# Altium footprint library AMR_Ref.PcbLib: 26 footprints (part 2 of 2)
Each footprint in its own frame and in the unit in brackets; x right, y up, seen from the top. Pads: shape width x height; smd on the part's side, far side on the other; paste and mask are expansions set on the pad; w line width, h text height; cw(c..) or ccw(c..) is an arc to the next point about the centre after c.
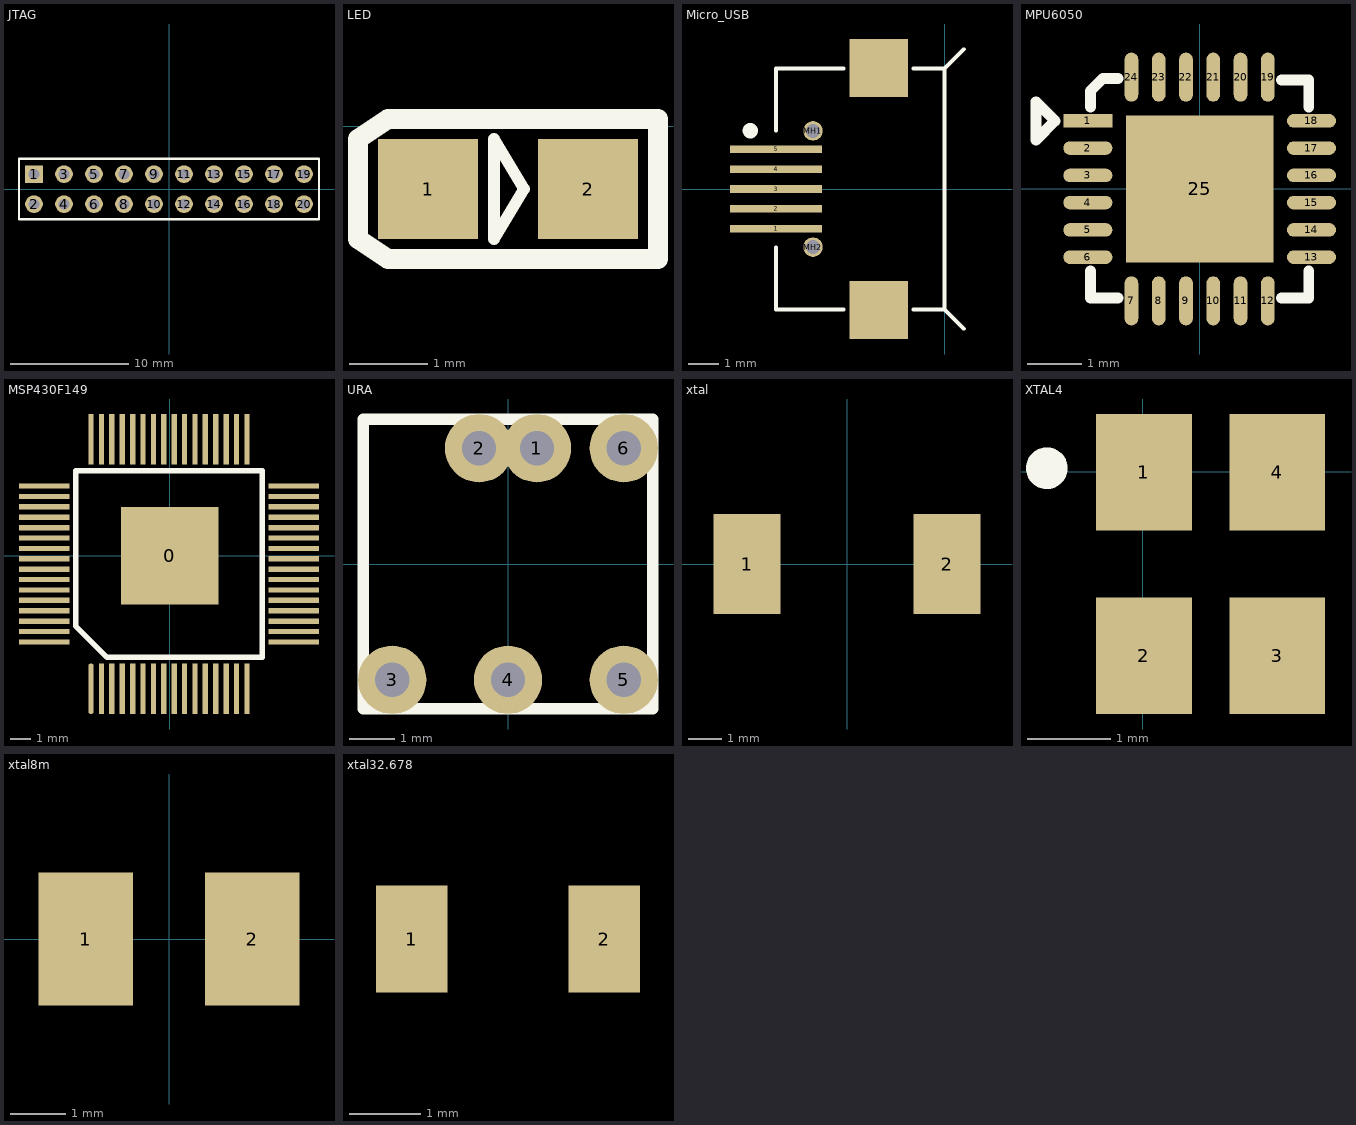
[diagram p1: the footprints below, top view; thin cyan lines are the x and y axes]

## JTAG [mm]
height 0.55
pads (20):
  rect 1.5x1.5 hole 0.9: 1(-11.43,1.27)
  round 1.5 hole 0.9: 2(-11.43,-1.27) 3(-8.89,1.27) 4(-8.89,-1.27) 5(-6.35,1.27) 6(-6.35,-1.27) 7(-3.81,1.27) 8(-3.81,-1.27) 9(-1.27,1.27) 10(-1.27,-1.27) 11(1.27,1.27) 12(1.27,-1.27) 13(3.81,1.27) 14(3.81,-1.27) 15(6.35,1.27) 16(6.35,-1.27) 17(8.89,1.27) 18(8.89,-1.27) 19(11.43,1.27) 20(11.43,-1.27)
Top Overlay:
  lines w0.2: -12.702,-2.54 -12.702,2.566 12.7,2.566 12.7,-2.54 -12.702,-2.54

## LED [mm]
height 0.55
pads (2):
  rect 1.27x1.27 smd: 1(1.7,-0.8) 2(3.732,-0.8)
Top Overlay:
  lines w0.15: 2.538,-1.435 2.538,-0.165 2.919,-0.8 2.538,-1.435
  lines w0.254: 0.811,-1.435 0.811,-0.165 1.192,0.089 4.621,0.089 4.621,-1.689 1.192,-1.689 0.811,-1.435

## Micro_USB [mm]
height 0.55
pads (9):
  rect 3x0.25 smd: 1(-5.508,-1.3) 2(-5.508,-0.65) 3(-5.508,0) 4(-5.508,0.65) 5(-5.508,1.3)
  round 0.635 hole 0.457 unplated: MH1(-4.3,1.9) MH2(-4.3,-1.9)
  rect 1.9x1.9 smd: ""(-2.15,-3.95) ""(-2.15,3.95)
Top Overlay:
  circle w0.25: c-6.348,1.905 r0.125
  lines w0.127: -5.508,-3.937 -3.302,-3.937 ; -5.508,-3.9 -5.508,-1.905 ; -5.508,1.905 -5.508,3.9 ; -5.508,3.937 -3.302,3.937 ; -1.016,-3.937 0,-3.937 0.63,-4.567 ; -1.016,3.937 0,3.937 0.63,4.567 ; 0,-3.9 0,3.9

## MPU6050 [mm]
pads (25):
  rect 0.9x0.25 smd: 1(-2.05,1.25)
  oval 0.9x0.25 smd: 2(-2.05,0.75) 3(-2.05,0.25) 4(-2.05,-0.25) 5(-2.05,-0.75) 6(-2.05,-1.25) 13(2.05,-1.25) 14(2.05,-0.75) 15(2.05,-0.25) 16(2.05,0.25) 17(2.05,0.75) 18(2.05,1.25)
  oval 0.25x0.9 smd: 7(-1.25,-2.05) 8(-0.75,-2.05) 9(-0.25,-2.05) 10(0.25,-2.05) 11(0.75,-2.05) 12(1.25,-2.05) 19(1.25,2.05) 20(0.75,2.05) 21(0.25,2.05) 22(-0.25,2.05) 23(-0.75,2.05) 24(-1.25,2.05)
  rect 2.7x2.7 smd: 25(0,0)
Top Overlay:
  lines w0.2: -2,-1.5 -2,-2 -1.5,-2 ; -2,1.5 -2,1.8 -1.775,2.025 -1.5,2.025 ; 1.5,-2 2,-2 2,-1.5 ; 1.5,2 2,2 2,1.5 ; -3,0.9 -2.65,1.25 -3,1.6 -3,0.9

## MSP430F149 [mil]
height 21.65
pads (65):
  rect 185.04x185.04 smd: 0(0,0)
  oval 10x95.74 smd: 1(-149.33,-251.57)
  rect 10x95.74 smd: 2(-129.65,-251.57) 3(-109.96,-251.57) 4(-90.28,-251.57) 5(-70.59,-251.57) 6(-50.91,-251.57) 7(-31.22,-251.57) 8(-11.54,-251.57) 9(8.15,-251.57) 10(27.83,-251.57) 11(47.52,-251.57) 12(67.2,-251.57) 13(86.89,-251.57) 14(106.57,-251.57) 15(126.26,-251.57) 16(145.94,-251.57) 33(145.94,220.87) 34(126.26,220.87) 35(106.57,220.87) 36(86.89,220.87) 37(67.2,220.87) 38(47.52,220.87) 39(27.83,220.87) 40(8.15,220.87) 41(-11.54,220.87) 42(-31.22,220.87) 43(-50.91,220.87) 44(-70.59,220.87) 45(-90.28,220.87) 46(-109.96,220.87) 47(-129.65,220.87) 48(-149.33,220.87)
  rect 95.74x10 smd: 17(234.53,-162.99) 18(234.53,-143.31) 19(234.53,-123.62) 20(234.53,-103.94) 21(234.53,-84.25) 22(234.53,-64.57) 23(234.53,-44.88) 24(234.53,-25.2) 25(234.53,-5.51) 26(234.53,14.17) 27(234.53,33.86) 28(234.53,53.54) 29(234.53,73.23) 30(234.53,92.91) 31(234.53,112.6) 32(234.53,132.28) 49(-237.91,132.28) 50(-237.91,112.6) 51(-237.91,92.91) 52(-237.91,73.23) 53(-237.91,53.54) 54(-237.91,33.86) 55(-237.91,14.17) 56(-237.91,-5.51) 57(-237.91,-25.2) 58(-237.91,-44.88) 59(-237.91,-64.57) 60(-237.91,-84.25) 61(-237.91,-103.94) 62(-237.91,-123.62) 63(-237.91,-143.31) 64(-237.91,-162.99)
Top Overlay:
  lines w10: -178.54,-132.83 -178.54,161.5 175.16,161.5 175.16,-192.2 -119.17,-192.2 -178.54,-132.83

## URA [mm]
height 0.55
pads (6):
  round 1.5 hole 0.75 paste+0.1 mask+0.1: 1(0.635,2.54) 2(-0.635,2.54) 3(-2.54,-2.54) 4(0,-2.54) 5(2.54,-2.54) 6(2.54,2.54)
Top Overlay:
  lines w0.254: -3.175,-3.175 3.175,-3.175 3.175,3.175 -3.175,3.175 -3.175,-3.175

## xtal [mm]
pads (2):
  rect 2x3 smd: 1(-3,0) 2(3,0)

## XTAL4 [mm]
height 0.55
pads (4):
  rect 1.15x1.4 smd: 1(0.015,-0.007) 2(0.015,-2.207) 3(1.615,-2.207) 4(1.615,-0.007)
Top Overlay:
  circle w0.25: c-1.151,0.043 r0.125

## xtal8m [mm]
pads (2):
  rect 1.7x2.4 smd: 1(-1.5,0) 2(1.5,0)

## xtal32.678 [mm]
pads (2):
  rect 1x1.5 smd: 1(17.239,6.452) 2(19.939,6.452)